# EAGLE library part WISMO_228 (library components)
WISMO 228 GSM Integrated Module from AirPrime
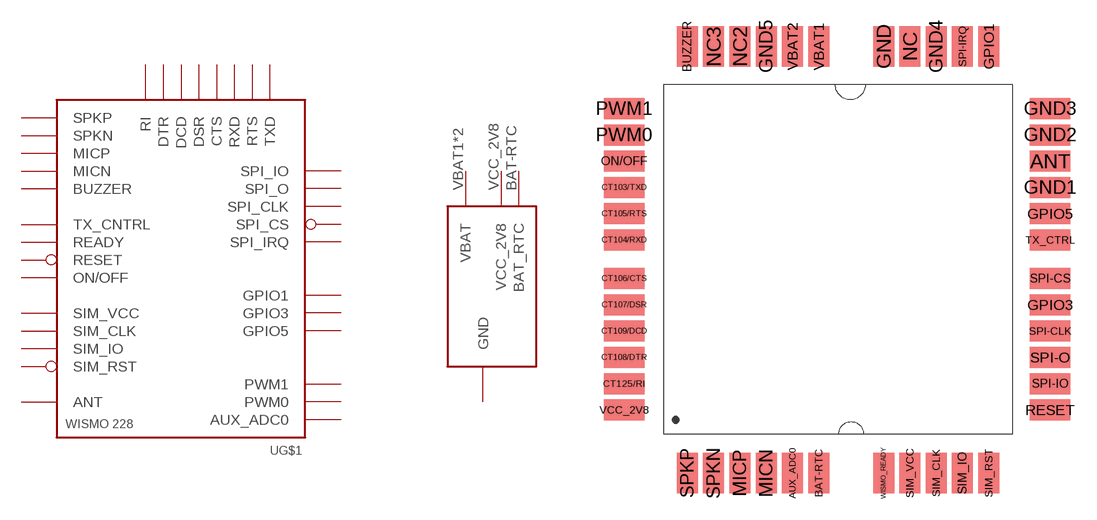
[diagram p1: symbol with the pads of GSM_MODULE; footprint GSM_MODULE]

Designator prefix -; gates G$1=WISMO228 G$2=WISMO228-PWR

## WISMO_228  [GSM_MODULE]
ANT  G$1:ANT
AUX_ADC0  G$1:AUX_ADC0
BAT-RTC  G$2:BAT_RTC  out
BUZZER  G$1:BUZZER
CT103/TXD  G$1:TXD
CT104/RXD  G$1:RXD
CT105/RTS  G$1:RTS
CT106/CTS  G$1:CTS
CT107/DSR  G$1:DSR
CT108/DTR  G$1:DTR
CT109/DCD  G$1:DCD
CT125/RI  G$1:RI
GND  G$2:GND  pwr
GND1  G$2:GND  pwr
GND2  G$2:GND  pwr
GND3  G$2:GND  pwr
GND4  G$2:GND  pwr
GND5  G$2:GND  pwr
GPIO1  G$1:GPIO1
GPIO3  G$1:GPIO3
GPIO5  G$1:GPIO5
MICN  G$1:MICN
MICP  G$1:MICP
ON/OFF  G$1:ON/OFF
PWM0  G$1:PWM0
PWM1  G$1:PWM1
RESET  G$1:RESET  in
SIM_CLK  G$1:SIM_CLK  out
SIM_IO  G$1:SIM_IO
SIM_RST  G$1:SIM_RST
SIM_VCC  G$1:SIM_VCC  out
SPI-CLK  G$1:SPI_CLK  out
SPI-CS  G$1:SPI_CS
SPI-IO  G$1:SPI_IO
SPI-IRQ  G$1:SPI_IRQ
SPI-O  G$1:SPI_O  out
SPKN  G$1:SPKN
SPKP  G$1:SPKP
TX_CTRL  G$1:TX_CNTRL
VBAT1  G$2:VBAT  pwr
VBAT2  G$2:VBAT  pwr
VCC_2V8  G$2:VCC_2V8  out
WISMO_READY  G$1:READY  out

## Footprint GSM_MODULE (pad centres in mm)
SMD Package for Airprime WISMO 228 GSM Module
smd 2.3 x 1.2: ANT 21.2,-7.2; CT103/TXD -3.1,-8.7; CT104/RXD -3.1,-11.7; CT105/RTS -3.1,-10.2; CT106/CTS -3.1,-13.9; CT107/DSR -3.1,-15.4; CT108/DTR -3.1,-18.4; CT109/DCD -3.1,-16.9; CT125/RI -3.1,-19.9; GND1 21.2,-8.7; GND2 21.2,-5.7; GND3 21.2,-4.2; GPIO3 21.2,-15.4; GPIO5 21.2,-10.2; ON/OFF -3.1,-7.2; PWM0 -3.1,-5.7; PWM1 -3.1,-4.2; RESET 21.2,-21.4; SPI-CLK 21.2,-16.9; SPI-CS 21.2,-13.9; SPI-IO 21.2,-19.9; SPI-O 21.2,-18.4; TX_CTRL 21.2,-11.7; VCC_2V8 -3.1,-21.4
smd 1.2 x 2.3: AUX_ADC0 6.5,-25; BAT-RTC 8,-25; BUZZER 0.5,-0.65; GND 11.7,-0.65; GND4 14.7,-0.65; GND5 5,-0.65; GPIO1 17.7,-0.65; MICN 5,-25; MICP 3.5,-25; NC 13.2,-0.65; NC2 3.5,-0.65; NC3 2,-0.65; SIM_CLK 14.7,-25; SIM_IO 16.2,-25; SIM_RST 17.7,-25; SIM_VCC 13.2,-25; SPI-IRQ 16.2,-0.65; SPKN 2,-25; SPKP 0.5,-25; VBAT1 8,-0.65; VBAT2 6.5,-0.65; WISMO_READY 11.7,-25